# Altium footprint library X.PcbLib: 77 footprints (part 5 of 5)
Each footprint in its own frame and in the unit in brackets; x right, y up, seen from the top. Pads: shape width x height; smd on the part's side, far side on the other; paste and mask are expansions set on the pad; w line width, h text height; cw(c..) or ccw(c..) is an arc to the next point about the centre after c.
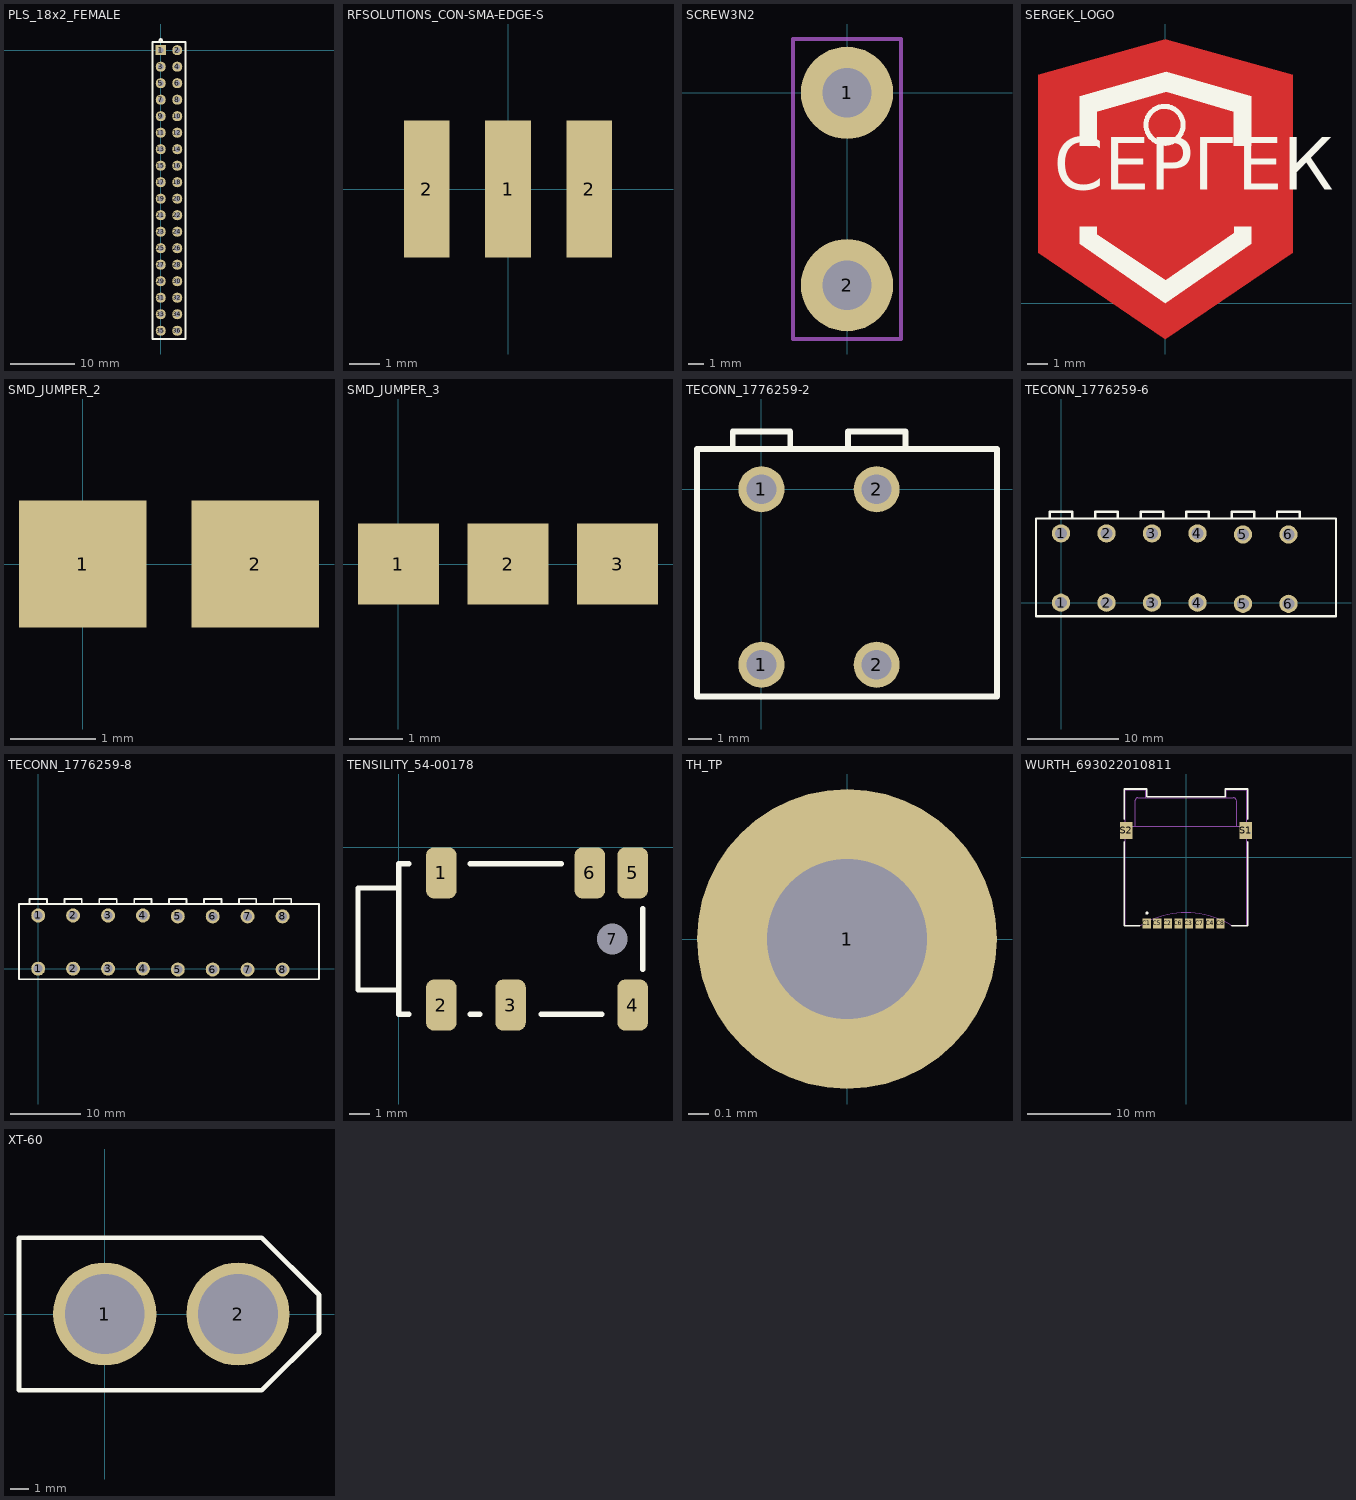
[diagram p4: the footprints below, top view; thin cyan lines are the x and y axes]

## PLS_18x2_FEMALE [mm]
pads (36):
  rect 1.55x1.55 hole 0.85: 1(0,0)
  round 1.55 hole 0.85: 2(2.54,0) 3(0,-2.54) 4(2.54,-2.54) 5(0,-5.08) 6(2.54,-5.08) 7(0,-7.62) 8(2.54,-7.62) 9(0,-10.16) 10(2.54,-10.16) 11(0,-12.7) 12(2.54,-12.7) 13(0,-15.24) 14(2.54,-15.24) 15(0,-17.78) 16(2.54,-17.78) 17(0,-20.32) 18(2.54,-20.32) 19(0,-22.86) 20(2.54,-22.86) 21(0,-25.4) 22(2.54,-25.4) 23(0,-27.94) 24(2.54,-27.94) 25(0,-30.48) 26(2.54,-30.48) 27(0,-33.02) 28(2.54,-33.02) 29(0,-35.56) 30(2.54,-35.56) 31(0,-38.1) 32(2.54,-38.1) 33(0,-40.64) 34(2.54,-40.64) 35(0,-43.18) 36(2.54,-43.18)
Top Overlay:
  circle w0.254: c0,1.524 r0.2
  lines w0.254: -1.27,-44.45 3.81,-44.45 3.81,1.27 -1.27,1.27 -1.27,-44.45
3D body: height 8.5, standoff 0, extent 1.524,-14.097 3.556,-13.843
3D body: height 8.5, standoff 0, extent 1.524,-16.637 3.556,-16.383
3D body: height 8.5, standoff 0, extent 1.524,-19.177 3.556,-18.923
3D body: height 8.5, standoff 0, extent 1.567,-21.739 3.599,-21.485
3D body: height 8.5, standoff 0, extent 1.567,-24.275 3.599,-24.021
3D body: height 8.5, standoff 0, extent 1.524,-26.797 3.556,-26.543
3D body: height 8.5, standoff 0, extent 1.524,-44.45 3.556,-44.196
3D body: height 8.5, standoff 0, extent 1.524,-42.037 3.556,-41.783
3D body: height 8.5, standoff 0, extent 1.524,-39.497 3.556,-39.243
3D body: height 8.5, standoff 0, extent 1.524,-36.957 3.556,-36.703
3D body: height 8.5, standoff 0, extent 1.524,-34.417 3.556,-34.163
3D body: height 8.5, standoff 0, extent 1.524,-31.877 3.556,-31.623
3D body: height 8.5, standoff 0, extent 1.524,-29.337 3.556,-29.083
3D body: height 8.5, standoff 0, extent 1.27,-44.45 1.651,1.27
3D body: height 8.5, standoff 0, extent 3.429,-44.45 3.81,1.27
3D body: height 8.5, standoff 0, extent -1.016,-44.45 1.016,-44.196
3D body: height 8.5, standoff 0, extent -1.016,-42.037 1.016,-41.783
3D body: height 8.5, standoff 0, extent -1.016,-39.497 1.016,-39.243
3D body: height 8.5, standoff 0, extent -1.016,-36.957 1.016,-36.703
3D body: height 8.5, standoff 0, extent -1.016,-34.417 1.016,-34.163
3D body: height 8.5, standoff 0, extent -1.016,-31.877 1.016,-31.623
3D body: height 8.5, standoff 0, extent -1.016,-29.337 1.016,-29.083
3D body: height 8.5, standoff 0, extent 0.889,-44.45 1.27,-28.956
3D body: height 8.5, standoff 0, extent -1.27,-44.45 -0.889,-28.956
3D body: height 8.5, standoff 0, extent -1.016,-26.797 1.016,-26.543
3D body: height 8.5, standoff 0, extent -1.016,-24.257 1.016,-24.003
3D body: height 8.5, standoff 0, extent -1.016,-21.717 1.016,-21.463
3D body: height 8.5, standoff 0, extent -1.016,-19.177 1.016,-18.923
3D body: height 8.5, standoff 0, extent -1.016,-16.637 1.016,-16.383
3D body: height 8.5, standoff 0, extent -1.016,-14.097 1.016,-13.843
3D body: height 8.5, standoff 0, extent -1.016,-11.557 1.016,-11.303
3D body: height 8.5, standoff 0, extent -1.016,-9.017 1.016,-8.763
3D body: height 8.5, standoff 0, extent -1.016,-6.477 1.016,-6.223
3D body: height 8.5, standoff 0, extent -1.016,-3.937 1.016,-3.683
3D body: height 8.5, standoff 0, extent -1.016,-1.397 1.016,-1.143
3D body: height 8.5, standoff 0, extent -1.016,1.016 1.016,1.27
3D body: height 8.5, standoff 0, extent 0.889,-29.21 1.27,1.27
3D body: height 8.5, standoff 0, extent -1.27,-29.21 -0.889,1.27
3D body: height 8.5, standoff 0, extent 1.524,-1.397 3.556,-1.143
3D body: height 8.5, standoff 0, extent 1.524,-3.937 3.556,-3.683
3D body: height 8.5, standoff 0, extent 1.524,-6.477 3.556,-6.223
3D body: height 8.5, standoff 0, extent 1.524,-9.017 3.556,-8.763
3D body: height 8.5, standoff 0, extent 1.524,-11.557 3.556,-11.303

## RFSOLUTIONS_CON-SMA-EDGE-S [mm] "CONN SMA JACK STR EDGE MNT"
pads (3):
  rect 1.5x4.5 smd: 1(0,0) 2(-2.667,0) 2(2.667,0)
3D body: height 3.17, standoff -3.17, extent -3.165,6.128 3.175,10.128
3D body: height 3, standoff -3, extent -3,3.758 3,11.628
3D body: height -1.73, standoff -2.8, extent 2.159,-1.524 3.175,2.286
3D body: height -1.73, standoff -2.8, extent -3.175,-1.524 -2.159,2.286
3D body: height 0.76, standoff 0, extent -0.378,-1.522 0.378,2.288
3D body: height 1.07, standoff 0, extent 2.159,-1.524 3.175,2.286
3D body: height 1.07, standoff 0, extent -3.175,-1.524 -2.159,2.286
3D body: height 3.55, standoff -2.8, extent -3.175,2.286 3.175,3.81

## SCREW3N2 [mm]
pads (2):
  round 6 hole 3.2: 1(0,0) 2(0,-12.5)
Top Overlay:
  circle w0.254: c0,0 r2.5
  circle w0.254: c0,-12.5 r2.5
Brd:
  circle w0.254: c0,-12.5 r2.5
  circle w0.254: c0,0 r2.5
Mechanical 15:
  lines w0.254: -3.5,-16 3.5,-16 3.5,3.5 -3.5,3.5 -3.5,-16
3D body: height 1.5, standoff 0, extent -2.5,-14.997 2.5,-10.003
3D body: height 1.5, standoff 0, extent -2.5,-2.497 2.5,2.497

## SERGEK_LOGO [mm]
Top Layer:
  circle w0.254: c-0.045,8.92 r0.925
  region: 4.28,2.979 0,0 -4.295,2.971 -4.295,3.82 -3.445,3.82 -3.445,3.445 0.005,1.145 3.405,3.495 3.43,3.52 3.43,3.82 4.28,3.82
  region: 4.28,10.345 4.28,7.87 3.405,7.87 3.405,9.57 0.03,10.57 -3.445,9.57 -3.445,7.87 -4.295,7.87 -4.295,10.345 0.03,11.57
  pour cut-out: -6.35,2.54 0,-1.778 6.35,2.54 6.35,11.43 0,13.208 -6.35,11.43
  text "СЕРГЕК" at -5.57,4.795 h4.5
Top Overlay:
  circle w0.254: c-0.045,8.92 r0.925
  region: 4.28,10.345 4.28,7.87 3.405,7.87 3.405,9.57 0.03,10.57 -3.445,9.57 -3.445,7.87 -4.295,7.87 -4.295,10.345 0.03,11.57
  region: 4.28,2.979 0,0 -4.295,2.971 -4.295,3.82 -3.445,3.82 -3.445,3.445 0.005,1.145 3.405,3.495 3.43,3.52 3.43,3.82 4.28,3.82
  text "СЕРГЕК" at -5.57,4.795 h4.5

## SMD_JUMPER_2 [mm]
pads (2):
  rect 1.5x1.5 smd: 1(0,0) 2(2.032,0)

## SMD_JUMPER_3 [mm]
pads (3):
  rect 1.5x1.5 smd: 1(0,0) 2(2.032,0) 3(4.064,0)

## TECONN_1776259-2 [mm] "TERM BLK 2POS TOP ENTRY 5MM PCB"
pads (4):
  round 2 hole 1.3: 1(0,-7.62) 1(0,0) 2(5,-7.62) 2(5,0)
Top Overlay:
  lines w0.254: -1.25,1.757 -1.25,2.507 1.25,2.507 1.25,1.757 ; 3.75,1.757 3.75,2.507 6.25,2.507 6.25,1.757 ; -2.8,-9 -2.8,1.75 10.226,1.75 10.226,-9 -2.8,-9
3D body: height 14, standoff 7, extent 3.75,1.007 6.25,2.507
3D body: height 14, standoff 7, extent -1.25,1.007 1.25,2.507
3D body: height 14, standoff 0, extent -2.5,-8.75 10,1.5

## TECONN_1776259-6 [mm] "TERM BLK 6POS TOP ENTRY 5MM PCB"
pads (12):
  round 2 hole 1.3: 1(0,0) 1(0,7.62) 2(5,0) 2(5,7.62) 3(10,0) 3(10,7.62) 4(15,0) 4(15,7.62) 5(20,-0.12) 5(20,7.5) 6(25,-0.12) 6(25,7.5)
Top Overlay:
  lines w0.254: -1.25,9.25 -1.25,10 1.25,10 1.25,9.25 ; 3.75,9.25 3.75,10 6.25,10 6.25,9.25 ; 8.75,9.25 8.75,10 11.25,10 11.25,9.25 ; 13.75,9.25 13.75,10 16.25,10 16.25,9.25 ; 18.75,9.257 18.75,10.007 21.25,10.007 21.25,9.257 ; 23.75,9.257 23.75,10.007 26.25,10.007 26.25,9.257 ; -2.75,-1.5 30.226,-1.5 30.226,9.25 -2.75,9.25 -2.75,-1.5
3D body: height 14, standoff 7, extent 13.75,8.5 16.25,10
3D body: height 14, standoff 7, extent 8.75,8.5 11.25,10
3D body: height 14, standoff 7, extent 3.75,8.5 6.25,10
3D body: height 14, standoff 7, extent -1.25,8.5 1.25,10
3D body: height 14, standoff 0, extent -2.5,-1.25 30,9
3D body: height 14, standoff 7, extent 18.75,8.507 21.25,10.007
3D body: height 14, standoff 7, extent 23.75,8.507 26.25,10.007

## TECONN_1776259-8 [mm] "TERM BLK 8POS TOP ENTRY 5MM PCB"
pads (16):
  round 2 hole 1.3: 1(0,0) 1(0,7.62) 2(5,0) 2(5,7.62) 3(10,0) 3(10,7.62) 4(15,0) 4(15,7.62) 5(20,-0.12) 5(20,7.5) 6(25,-0.12) 6(25,7.5) 7(30,-0.12) 7(30,7.5) 8(35,-0.12) 8(35,7.5)
Top Overlay:
  lines w0.254: -1.25,9.25 -1.25,10 1.25,10 1.25,9.25 ; 3.75,9.25 3.75,10 6.25,10 6.25,9.25 ; 8.75,9.25 8.75,10 11.25,10 11.25,9.25 ; 13.75,9.25 13.75,10 16.25,10 16.25,9.25 ; 18.75,9.25 18.75,10 21.25,10 21.25,9.25 ; 23.75,9.25 23.75,10 26.25,10 26.25,9.25 ; 28.75,9.257 28.75,10.007 31.25,10.007 31.25,9.257 ; 33.75,9.257 33.75,10.007 36.25,10.007 36.25,9.257 ; -2.75,-1.5 40.226,-1.5 40.226,9.25 -2.75,9.25 -2.75,-1.5
3D body: height 14, standoff 7, extent 3.75,8.5 6.25,10
3D body: height 14, standoff 7, extent -1.25,8.5 1.25,10
3D body: height 14, standoff 7, extent 23.75,8.5 26.25,10
3D body: height 14, standoff 7, extent 18.75,8.5 21.25,10
3D body: height 14, standoff 7, extent 13.75,8.5 16.25,10
3D body: height 14, standoff 7, extent 8.75,8.5 11.25,10
3D body: height 14, standoff 0, extent -2.5,-1.25 40,9
3D body: height 14, standoff 7, extent 28.75,8.507 31.25,10.007
3D body: height 14, standoff 7, extent 33.75,8.507 36.25,10.007

## TENSILITY_54-00178 [mm]
pads (7):
  rrect50% 1.5x2.5 smd: 1(2.1,-1.25) 2(2.1,-7.75) 3(5.5,-7.75) 4(11.5,-7.75) 5(11.5,-1.25) 6(9.4,-1.25)
  round 1 hole 1.5 unplated: 7(10.5,-4.5)
Top Overlay:
  lines w0.254: 0,-7 -2,-7 -2,-2 0,-2 ; 0.5,-8.2 0,-8.2 0,-0.8 0.5,-0.8 ; 3.5,-8.2 4,-8.2 ; 3.5,-0.8 8,-0.8 ; 7,-8.2 10,-8.2 ; 12,-6 12,-3
3D body: height 0.5, standoff 0, extent 0,-8.2 12,-0.8
3D body: height 4.35, standoff -0.65, extent -2,-6.997 0,-2.003
3D body: height 3.7, standoff 0, extent 0,-7.6 12,-1.4

## TH_TP [mm]
pads (1):
  round 1.5 hole 0.8: 1(0,0)

## WURTH_693022010811 [mm] "8 Position Card Connector Micro SIM Surface Mount, Right Angle Gold"
pads (10):
  rect 1x1.2 smd: C1(-4.72,-7.95) C2(-2.18,-7.95) C3(0.36,-7.95) C4(2.9,-7.95) C5(-3.45,-7.95) C6(-0.91,-7.95) C7(1.63,-7.95) C8(4.17,-7.95)
  rect 1.5x2 smd: S1(7.2,3.25) S2(-7.2,3.25)
Top Overlay:
  circle w0.2: c-4.7,-6.71 r0.1
  lines w0.2: -7.43,1.9 -7.43,-8.25 -5.6,-8.25 ; -7.43,4.6 -7.43,8.25 -4.73,8.25 -4.73,7.3 4.73,7.3 4.73,8.25 7.43,8.25 7.43,4.6 ; 5.5,-8.25 7.43,-8.25 7.43,1.9
Body:
  lines w0.1: -7.3,3.75 -6.1,3.75 ; -5.38,-8.15 -7.33,-8.15 -7.33,8.15 -4.83,8.15 -4.83,7.2 ; -5.31,-8.109 cw(c0,-17.306) 5.31,-8.109 ; 5.38,-8.15 7.33,-8.15 7.33,8.15 4.83,8.15 4.83,7.2 ; 7.3,3.75 6.1,3.75 ; -6.1,3.75 6.1,3.75 ; -6.1,3.75 -6.1,6.9 cw(c-5.8,6.9) -5.8,7.2 -4.83,7.2 ; -4.83,7.2 4.83,7.2 ; 4.83,7.2 5.7,7.2 cw(c5.7,6.8) 6.1,6.8 6.1,3.75

## XT-60 [mm]
pads (2):
  round 5.5 hole 4.25: 1(0,0) 2(7.112,0)
Top Overlay:
  lines w0.254: -4.572,-4.064 -4.572,4.064 8.382,4.064 11.43,1.016 11.43,0 11.43,-1.016 8.382,-4.064 -4.572,-4.064
3D body: height 15.7, standoff 0, extent -3.81,-3.175 10.795,3.175
3D body: height 7, standoff 0, extent -4.572,-4.064 11.43,4.064